# Altium schematic symbol library Elec391_Components.SchLib: 2 symbols
Pins are listed as number, name and electrical type; pins without a type are passive.

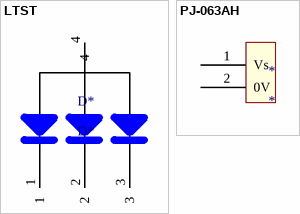
[diagram p0: symbols LTST to PJ-063AH]

## LTST
designator D*, comment D*
footprint LTST-C19HE1WT
pins: 1, 2, 3, 4

## PJ-063AH
designator *
footprint PJ-063AH
pins: 1 Vs, 2 0V